# Altium footprint library Seeed-OPL-Antenna.PCBLIB: 5 footprints
Each footprint in its own frame and in the unit in brackets; x right, y up, seen from the top. Pads: shape width x height; smd on the part's side, far side on the other; paste and mask are expansions set on the pad; w line width, h text height; cw(c..) or ccw(c..) is an arc to the next point about the centre after c.
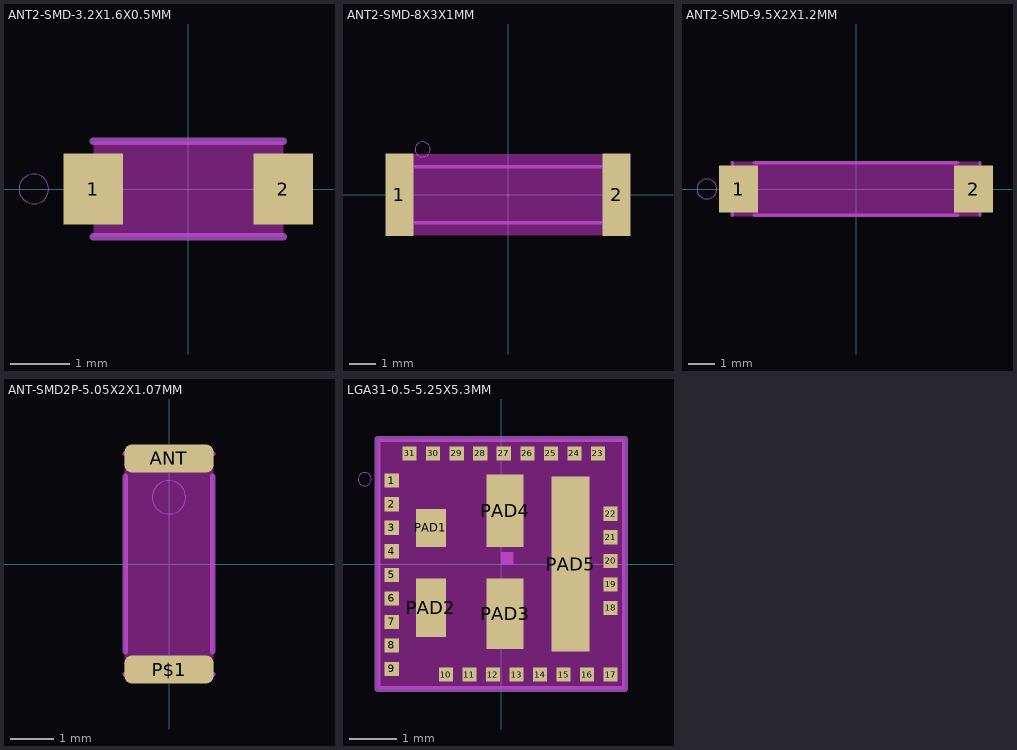
[diagram p0: the footprints below, top view; thin cyan lines are the x and y axes]

## ANT2-SMD-3.2X1.6X0.5MM [mm]
pads (2):
  rect 1x1.2 smd: 1(-1.6,0) 2(1.6,0)
Keep-Out Layer:
  rectangle: -1.6,-0.8 1.6,0.8
Mechanical 2:
  circle w0: c-2.6,0 r0.25
  lines w0.127: -1.6,-0.8 1.6,-0.8 ; -1.6,0.8 1.6,0.8

## ANT2-SMD-8X3X1MM [mm]
pads (2):
  rect 1.05x3.1 smd: 1(-4.075,0) 2(4.075,0)
Keep-Out Layer:
  rectangle: -4.572,-1.524 4.572,1.524
Mechanical 2:
  circle w0: c-3.2,1.7 r0.283
  lines w0.127: -3.5,-1.05 3.5,-1.05 ; -3.5,1.05 3.5,1.05

## ANT2-SMD-9.5X2X1.2MM [mm]
pads (2):
  rect 1.5x1.8 smd: 1(-4.5,0) 2(4.5,0)
Keep-Out Layer:
  rectangle: -4.75,-1.05 4.75,1.05
Mechanical 2:
  circle w0: c-5.715,0 r0.381
  lines w0.127: -3.9,-1 3.9,-1 ; -3.9,1 3.9,1
Mechanical 18:
  lines w0.127: -4.75,-1 -4.75,1 ; 4.75,-1 4.75,1

## ANT-SMD2P-5.05X2X1.07MM [mil]
pads (2):
  rrect50% 80x25 smd: ANT(0,95) P$1(0,-95)
Keep-Out Layer:
  rectangle: -40,-100 40,100
Mechanical 2:
  circle w0: c0,60 r15
  lines w5: -39.37,-78.74 -39.37,78.74 ; 39.37,-78.74 39.37,78.74
Mechanical 18:
  lines w5: -39.37,-99.41 39.37,-99.41 ; -39.37,99.41 39.37,99.41

## LGA31-0.5-5.25X5.3MM [mm]
pads (36):
  rect 0.3x0.3 smd: 1(-2.325,1.77) 2(-2.325,1.27) 3(-2.325,0.77) 4(-2.325,0.27) 5(-2.325,-0.23) 6(-2.325,-0.73) 7(-2.325,-1.23) 8(-2.325,-1.73) 9(-2.325,-2.23) 10(-1.175,-2.35) 11(-0.675,-2.35) 12(-0.175,-2.35) 13(0.325,-2.35) 14(0.825,-2.35) 15(1.325,-2.35) 16(1.825,-2.35) 17(2.325,-2.35) 18(2.325,-0.933) 19(2.325,-0.433) 20(2.325,0.067) 21(2.325,0.567) 22(2.325,1.067) 23(2.055,2.35) 24(1.555,2.35) 25(1.055,2.35) 26(0.555,2.35) 27(0.055,2.35) 28(-0.445,2.35) 29(-0.945,2.35) 30(-1.445,2.35) 31(-1.945,2.35)
  rect 0.635x0.8 smd: PAD1(-1.493,0.765)
  rect 0.635x1.245 smd: PAD2(-1.493,-0.933)
  rect 0.785x1.49 smd: PAD3(0.083,-1.055)
  rect 0.785x1.535 smd: PAD4(0.083,1.133)
  rect 0.805x3.715 smd: PAD5(1.473,0)
Keep-Out Layer:
  rectangle: -2.625,-2.65 2.625,2.65
Mechanical 2:
  circle w0: c-2.9,1.8 r0.141
  region: 0,0 0.254,0 0.254,0.254 0,0.254
  lines w0.127: -2.625,-2.65 2.625,-2.65 2.625,2.65 -2.625,2.65 -2.625,-2.65